# Altium integrated library HOLYIOT-18010-NRF52840.IntLib: 1 symbol
Pins are listed as number, name and electrical type; pins without a type are passive.

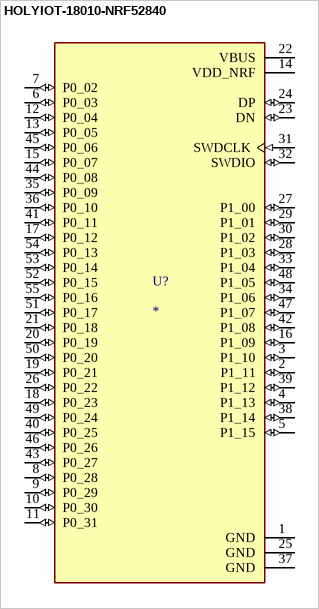
[diagram p0: symbol HOLYIOT-18010-NRF52840]

## HOLYIOT-18010-NRF52840
designator U?
Holyiot 18010 Nordic nRF52840 module Bluetooth low energy module; MP: HOLYIOT-18010-NRF52840; SnapEDA_Link: https://www.snapeda.com/parts/HOLYIOT-18010-NRF52840/Holyiot/view-part/?ref=snap; Package: Package; Value: *; MF: Holyiot; Check_prices: https://www.snapeda.com/parts/HOLYIOT-18010-NRF52840/Holyiot/view-part/?ref=eda
footprint XCVR_HOLYIOT-18010-NRF52840
pins: 1 GND (power), 2 P1_11 (io), 3 P1_10 (io), 4 P1_13 (io), 5 P1_15 (io), 6 P0_03 (io), 7 P0_02 (io), 8 P0_28 (io), 9 P0_29 (io), 10 P0_30 (io), 11 P0_31 (io), 12 P0_04 (io), 13 P0_05 (io), 14 VDD_NRF (power), 15 P0_07 (io), 16 P1_09 (io), 17 P0_12 (io), 18 P0_23 (io), 19 P0_21 (io), 20 P0_19 (io), 21 P0_18 (io), 22 VBUS (power), 23 DN (io), 24 DP (io), 25 GND (power), 26 P0_22 (io), 27 P1_00 (io), 28 P1_03 (io), 29 P1_01 (io), 30 P1_02 (io), 31 SWDCLK (in), 32 SWDIO (io), 33 P1_04 (io), 34 P1_06 (io), 35 P0_09 (io), 36 P0_10 (io), 37 GND (power), 38 P1_14 (io), 39 P1_12 (io), 40 P0_25 (io), 41 P0_11 (io), 42 P1_08 (io), 43 P0_27 (io), 44 P0_08 (io), 45 P0_06 (io), 46 P0_26 (io), 47 P1_07 (io), 48 P1_05 (io), 49 P0_24 (io), 50 P0_20 (io), 51 P0_17 (io), 52 P0_15 (io), 53 P0_14 (io), 54 P0_13 (io), 55 P0_16 (io)